# EAGLE library part MA05-2 (library 000_ICS_2021)
PIN HEADER
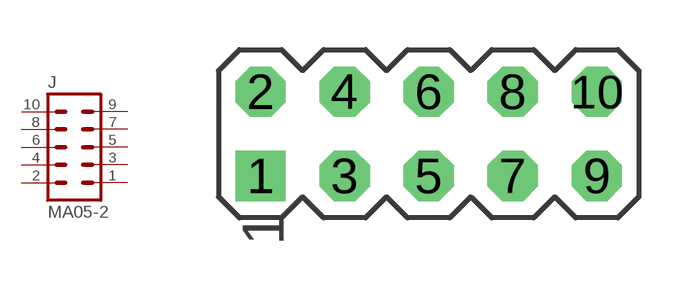
[diagram p8: symbol with the pads of MA05-2; footprint MA05-2]

Designator prefix J

## MA05-2 (ICS: ICS-1055; VALUE: 2x5 header 2.54mm)  [MA05-2]
1  1  pas
2  2  pas
3  3  pas
4  4  pas
5  5  pas
6  6  pas
7  7  pas
8  8  pas
9  9  pas
10  10  pas

## Footprint MA05-2 (pad centres in mm)
PIN HEADER
drill 1.016 pad 1.27 square: 1 -5.08,-1.27
drill 1.016 octagon: 2 -5.08,1.27; 3 -2.54,-1.27; 4 -2.54,1.27; 5 0,-1.27; 6 0,1.27; 7 2.54,-1.27; 8 2.54,1.27; 9 5.08,-1.27; 10 5.08,1.27